# EAGLE library part SRV05-4.TCT (library Picoradio1V1)
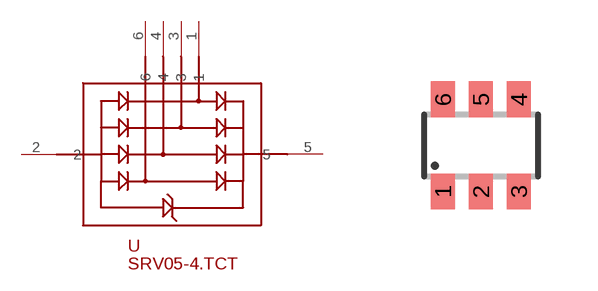
[diagram p0: symbol with the pads of SOT23-6; footprint SOT23-6]

Designator prefix -

## SRV05-4.TCT  [SOT23-6]
1  1
2  2
3  3
4  4
5  5
6  6

## Footprint SOT23-6 (pad centres in mm)
Small Outline Transistor 6 lead
smd 0.6 x 0.9: 1 -0.95,-1.15; 2 0,-1.15; 3 0.95,-1.15; 4 0.95,1.15; 5 0,1.15; 6 -0.95,1.15